# EAGLE library part FDC645N (library zz-m-pad-2.1)
Fairchild's FDC645N N-Channel PowerTrench MOSFET Description: This N-Channel MOSFET has been designed specifically to improve the overall efficiency of DC/DC converters using either synchronous or conventional switching PWM controllers. It has been optimized for low gate charge, low RDS(ON) and fast switching speed. Features: 5.5 A, 30 V. RDS(ON) = 30mOhm @ VGS = 4.5 V RDS(ON) = 26mOhm @ VGS = 10 V High performance trench technology for extremely low RDS(ON). Low gate charge (13 nC typical) High power and current handling capability Applications: DC/DC converter Please send any comments to: messi@users.sourceforge.net
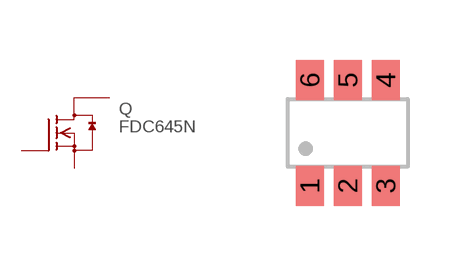
[diagram p110: symbol with the pads of SSOT-6; footprint SSOT-6]

Designator prefix Q

## FDC645N  [SSOT-6]
1  D  pas
2  D  pas
3  G  pas
4  S  pas
5  D  pas
6  D  pas

## Footprint SSOT-6 (pad centres in mm)
SuperSOT-6 (FS PKG Code 31, 33) E.g.: FDC6305N Dual N-Channel 2.5V Specified PowerTrench MOSFET
smd 0.7 x 1: 1 -0.95,-1.325; 2 0,-1.325; 3 0.95,-1.325; 4 0.95,1.325; 5 0,1.325; 6 -0.95,1.325